# Altium schematic symbol library SamacSys.SchLib: 1 symbol
Pins are listed as number, name and electrical type; pins without a type are passive.

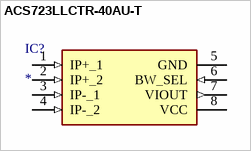
[diagram p0: symbol ACS723LLCTR-40AU-T]

## ACS723LLCTR-40AU-T
designator IC?
Integrated Circuit; Manufacturer_Name: Allegro Microsystems; Manufacturer_Part_Number: ACS723LLCTR-40AU-T; Datasheet Link: http://www.allegromicro.com/~/media/Files/Datasheets/ACS723-Datasheet.ashx; Height: 1.75mm
footprint SOT127P600X175-8N
pins: 1 IP+_1 (in), 2 IP+_2 (in), 3 IP-_1 (in), 4 IP-_2 (in), 5 GND (power), 6 BW_SEL (in), 7 VIOUT (out), 8 VCC (power)